# EAGLE library part LT3080EQPBF (library U-LT3080EQ)
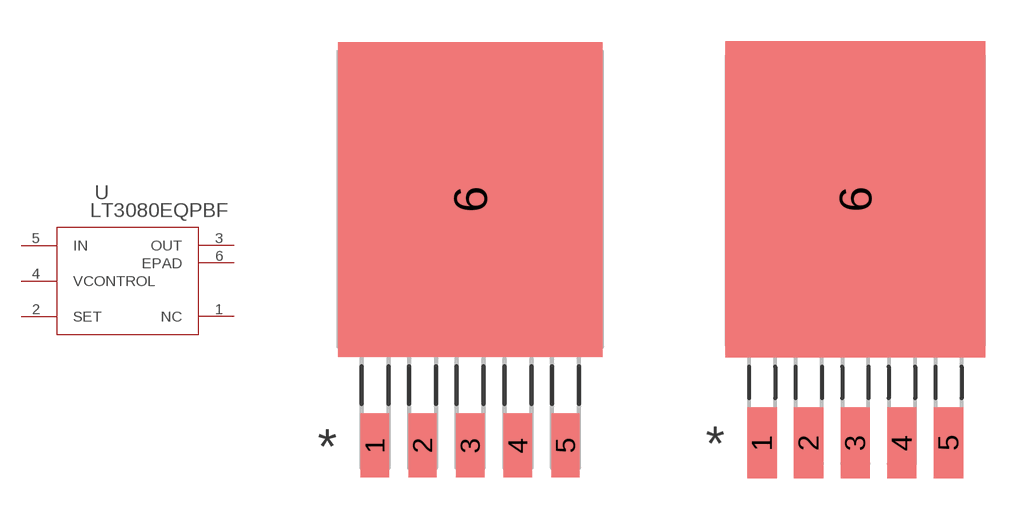
[diagram p0: symbol with the pads of DDPAK-5_Q; footprints DDPAK-5_Q, DDPAK-5_Q-M]

Designator prefix U

## LT3080EQPBF (MANUFACTURER_PART_NUMBER: LT3080EQ#PBF; VENDOR: Linear Technology)  [DDPAK-5_Q]
1  NC  nc
2  SET  in
3  OUT  pwr
4  VCONTROL  in
5  IN  pwr
6  EPAD  pwr

## LT3080EQPBFDDPAK-5_Q-M (MANUFACTURER_PART_NUMBER: LT3080EQ#PBF; VENDOR: Linear Technology)  [DDPAK-5_Q-M]
Pads as for DDPAK-5_Q

## LT3080EQPBFDDPAK-5_Q-L (MANUFACTURER_PART_NUMBER: LT3080EQ#PBF; VENDOR: Linear Technology)  [DDPAK-5_Q-L]
Pads as for DDPAK-5_Q

## Footprint DDPAK-5_Q (pad centres in mm)
smd 1.016 x 2.286: 1 -3.404,-8.801; 2 -1.702,-8.801; 3 0,-8.801; 4 1.702,-8.801; 5 3.404,-8.801
smd 9.449 x 11.252: 6 0,0

## Footprint DDPAK-5_Q-M (pad centres in mm)
smd 1.067 x 2.591: 1 -3.404,-8.852; 2 -1.702,-8.852; 3 0,-8.852; 4 1.702,-8.852; 5 3.404,-8.852
smd 9.5 x 11.557: 6 0,0.051

## Footprint DDPAK-5_Q-L (pad centres in mm)
smd 0.965 x 1.981: 1 -3.404,-8.75; 2 -1.702,-8.75; 3 0,-8.75; 4 1.702,-8.75; 5 3.404,-8.75
smd 9.398 x 10.947: 6 0,-0.051